# Altium footprint library AC10xx.PcbLib: 1 footprints
Each footprint in its own frame and in the unit in brackets; x right, y up, seen from the top. Pads: shape width x height; smd on the part's side, far side on the other; paste and mask are expansions set on the pad; w line width, h text height; cw(c..) or ccw(c..) is an arc to the next point about the centre after c.
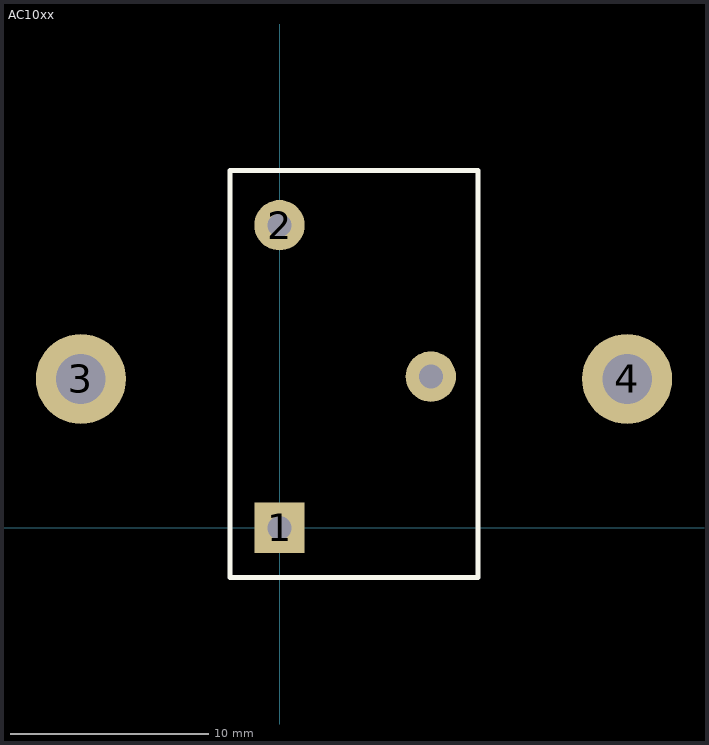
[diagram p0: the footprint, top view; thin cyan lines are the x and y axes]

## AC10xx [mm]
pads (5):
  rect 2.54x2.54 hole 1.2: 1(0,0)
  round 2.54 hole 1.2: 2(0,15.24) ""(7.62,7.62)
  round 4.54 hole 2.5: 3(-10,7.5) 4(17.5,7.5)
Top Overlay:
  lines w0.254: -2.5,-2.5 10,-2.5 10,18 -2.5,18 -2.5,-2.5